# Altium schematic symbol library AD603.SchLib: 1 symbol
Pins are listed as number, name and electrical type; pins without a type are passive.

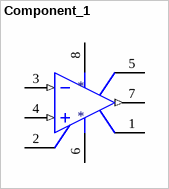
[diagram p0: symbol Component_1]

## Component_1
designator *
pins: 1 OS NUL, 2 VREF, 3 (in), 4 (in), 5, 6 (power), 7 (out), 8 (power)